# EAGLE library part TLV320DAC3120IRHBR (library TLV320DAC3120IRHBR)
Low-Power Mono Audio DAC With Embedded miniDSP and Mono Class-D Speaker Amplifier Source: Datasheet <http://www.ti.com/lit/gpn/tlv320dac3120>
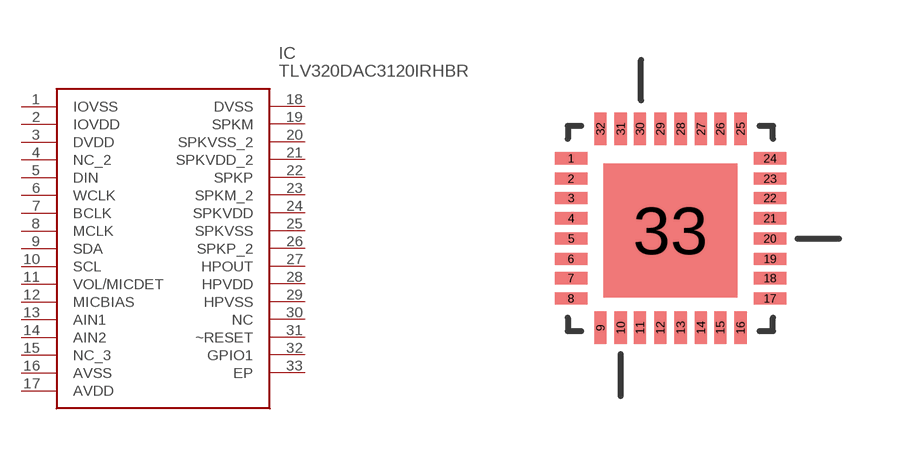
[diagram p0: symbol with the pads of QFN50P500X500X100-33N; footprint QFN50P500X500X100-33N]

Designator prefix IC

## TLV320DAC3120IRHBR (Arrow_Part_Number: TLV320DAC3120IRHBR; Arrow_Price-Stock: https://www.arrow.com/en/products/tlv320dac3120irhbr/texas-instruments; Description: Low-Power Mono Audio DAC With Embedded miniDSP and Mono Class-D Speaker Amplifier; Height: mm; Manufacturer_Name: Texas Instruments; Manufacturer_Part_Number: TLV320DAC3120IRHBR; Mouser_Part_Number: 595-V320DAC3120IRHBR; Mouser_Price-Stock: https://www.mouser.co.uk/ProductDetail/Texas-Instruments/TLV320DAC3120IRHBR?qs=DS7Z8uEdLNxYV%252BDpFnw2zQ%3D%3D)  [QFN50P500X500X100-33N]
1  IOVSS
2  IOVDD
3  DVDD
4  NC_2
5  DIN
6  WCLK
7  BCLK
8  MCLK
9  SDA
10  SCL
11  VOL/MICDET
12  MICBIAS
13  AIN1
14  AIN2
15  NC_3
16  AVSS
17  AVDD
18  DVSS
19  SPKM
20  SPKVSS_2
21  SPKVDD_2
22  SPKP
23  SPKM_2
24  SPKVDD
25  SPKVSS
26  SPKP_2
27  HPOUT
28  HPVDD
29  HPVSS
30  NC  nc
31  ~RESET
32  GPIO1
33  EP

## Footprint QFN50P500X500X100-33N (pad centres in mm)
QFN50P500X500X100-33N
smd 0.813 x 0.305: 1 -2.489,1.753; 2 -2.489,1.245; 3 -2.489,0.762; 4 -2.489,0.254; 5 -2.489,-0.254; 6 -2.489,-0.762; 7 -2.489,-1.245; 8 -2.489,-1.753; 17 2.489,-1.753; 18 2.489,-1.245; 19 2.489,-0.762; 20 2.489,-0.254; 21 2.489,0.254; 22 2.489,0.762; 23 2.489,1.245; 24 2.489,1.753
smd 0.305 x 0.813: 9 -1.753,-2.489; 10 -1.245,-2.489; 11 -0.762,-2.489; 12 -0.254,-2.489; 13 0.254,-2.489; 14 0.762,-2.489; 15 1.245,-2.489; 16 1.753,-2.489; 25 1.753,2.489; 26 1.245,2.489; 27 0.762,2.489; 28 0.254,2.489; 29 -0.254,2.489; 30 -0.762,2.489; 31 -1.245,2.489; 32 -1.753,2.489
smd 3.353 x 3.353: 33 0,-0.051